# Altium integrated library MC7805BDTG.IntLib: 1 symbol
Pins are listed as number, name and electrical type; pins without a type are passive.

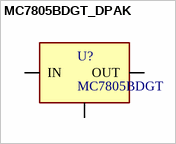
[diagram p0: symbol MC7805BDGT_DPAK]

## MC7805BDGT_DPAK
designator U?, comment MC7805BDGT
Linear Voltage Regulator IC 5V 1A DPAK; MF: Microchip; SnapEDA_Link: https://www.snapeda.com/parts/TC1262-3.3VDB/Microchip/view-part/244262/?ref=snap; Check_prices: https://www.snapeda.com/parts/TC1262-3.3VDB/Microchip/view-part/244262/?ref=eda; MP: MC7805BDGT; Availability: Good; Price: None; Value: *; Package: SOT-223 Microchip; Purchase-URL: https://pricing.snapeda.com/search/part/TC1262-3.3VDB/?ref=eda
pins: 1 IN, 2 GND, 3 OUT